# EAGLE library part AD7709 (library AD7709)
Analog Devices AD7709 TSSOP-24 package By kuauhtemok flores (cires49@hotmail.com) KFE inc.
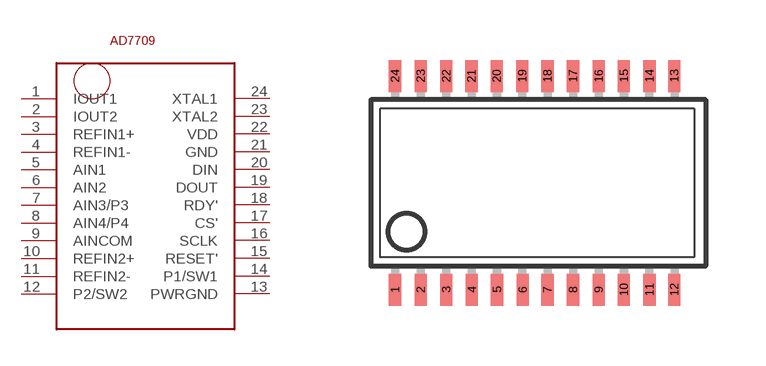
[diagram p0: symbol with the pads of TSSOP24; footprint TSSOP24]

Designator prefix -

## AD7709  [TSSOP24]
1  IOUT1
2  IOUT2
3  REFIN1+
4  REFIN1-
5  AIN1
6  AIN2
7  AIN3/P3
8  AIN4/P4
9  AINCOM
10  REFIN2+
11  REFIN2-
12  P2/SW2
13  PWRGND
14  P1/SW1
15  RESET'
16  SCLK
17  CS'
18  RDY'
19  DOUT
20  DIN
21  GND
22  VDD
23  XTAL2
24  XTAL1

## Footprint TSSOP24 (pad centres in mm)
smd 0.305 x 0.8: 1 1.74,0.8; 2 2.38,0.8; 3 3.02,0.8; 4 3.66,0.8; 5 4.29,0.8; 6 4.93,0.8; 7 5.55,0.8; 8 6.19,0.8; 9 6.83,0.8; 10 7.46,0.8; 11 8.1,0.8; 12 8.72,0.8; 13 8.72,6.15; 14 8.1,6.15; 15 7.46,6.15; 16 6.83,6.15; 17 6.19,6.15; 18 5.55,6.15; 19 4.92,6.15; 20 4.28,6.15; 21 3.65,6.15; 22 3.02,6.15; 23 2.38,6.15; 24 1.74,6.15